# Altium integrated library TI Data Converters Digital to Analog Converter.IntLib: 1533 symbols (part 6 of 99)
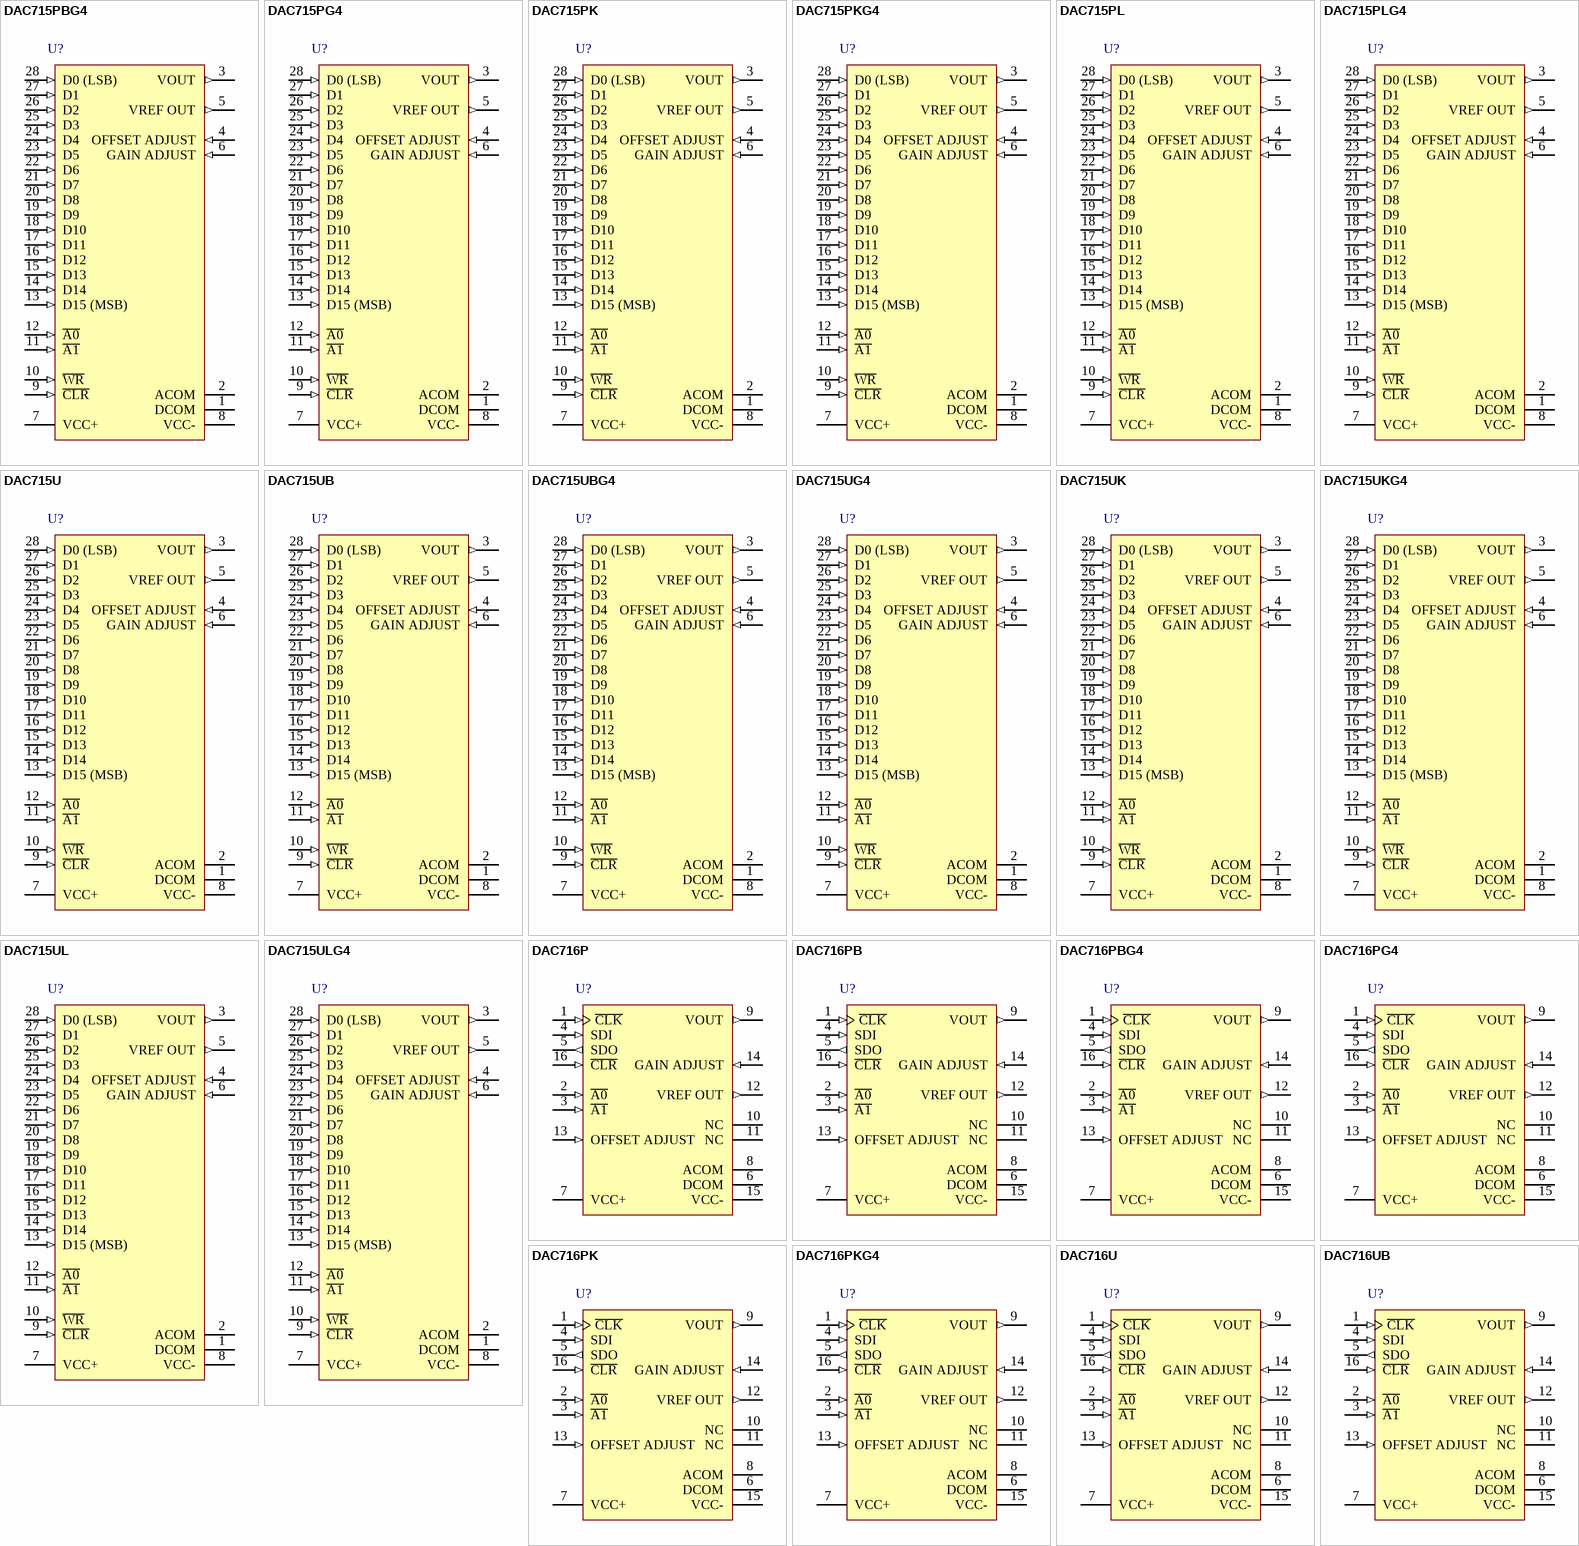
[diagram p78: symbols DAC715PBG4 to DAC716UB]

## DAC715PBG4
designator U?
DAC with 16-Bit Bus Interface, -40 to 85 degC, 28-pin DIP (NT28); Manufacturer: Texas Instruments; PartNumber: DAC715PBG4; DAC Channels: 1; DNL(Max)(+/-LSB): 2; Interface: Parallel; Power Consumption(Typ)(mW): 525; Resolution(Bits): 16; Settling Time(us): 10; SubFamily: Precision DAC (=<10MSPS); DatasheetVersion: SBAS046; PackageVersion: 4040050/C, 04/2009; PackageReference: NT28; PackageDescription: 28-Pin Plastic Dual-In-Line Package, Body 35.69 x 6.73 mm, Pitch 2.54 mm; Supplier 1: Digi-Key; Supplier Part Number 1: DAC715PBG4-ND; Supplier 2: Mouser; Supplier Part Number 2: 595-DAC715PBG4; INL(Max)(+/-LSB): 2; Mounting Technology: Through Hole; ComponentLink1Description: Manufacturer URL; ComponentLink1URL: http://www.ti.com/; ComponentLink2Description: Datasheet; ComponentLink2URL: http://www.ti.com/general/docs/lit/getliterature.tsp?genericPartNumber=DAC715&fileType=pdf; ComponentLink3Description: Package Specification; ComponentLink3URL: http://www.ti.com/lit/ml/mpdi004a/mpdi004a.pdf
footprint TI-NT28 (DIP, 28-Leads, Body 35.69x6.73mm, Pitch 2.54mm)
pins: 1 DCOM (power) "Power-Supply return for digital currents", 2 ACOM (power) "Analog Supply Return", 3 VOUT (out) "+/-10V D/A Output", 4 OFFSET ADJUST (in) "Offset Adjust (Bipolar)", 5 VREF OUT (out) "Voltage Reference Output", 6 GAIN ADJUST (in) "Gain Adjust", 7 VCC+ (power) "+12V to +15V Supply", 8 VCC- (power) "-12V to -15V Supply", 9 ~{CLR} (in) "CLEAR; Sets D/A output to Bipolar Zero (Active Low)", 10 ~{WR} (in) "Write (Active Low)", 11 ~{A1} (in) "Enable for D/A latch (Active Low)", 12 ~{A0} (in) "Enable for Input latch (Active Low)", 13 D15 (MSB) (in) "Data Bit 15 (Most Significant Bit)", 14 D14 (in) "Data Bit 14", 15 D13 (in) "Data Bit 13", 16 D12 (in) "Data Bit 12", 17 D11 (in) "Data Bit 11", 18 D10 (in) "Data Bit 10", 19 D9 (in) "Data Bit 9", 20 D8 (in) "Data Bit 8", 21 D7 (in) "Data Bit 7", 22 D6 (in) "Data Bit 6", 23 D5 (in) "Data Bit 5", 24 D4 (in) "Data Bit 4", 25 D3 (in) "Data Bit 3", 26 D2 (in) "Data Bit 2", 27 D1 (in) "Data Bit 1", 28 D0 (LSB) (in) "Data Bit 0 (Least Significant Bit)"

## DAC715PG4
designator U?
DAC with 16-Bit Bus Interface, -40 to 85 degC, 28-pin DIP (NT28); Manufacturer: Texas Instruments; PartNumber: DAC715PG4; DAC Channels: 1; DNL(Max)(+/-LSB): 4; Interface: Parallel; Power Consumption(Typ)(mW): 525; Resolution(Bits): 16; Settling Time(us): 10; SubFamily: Precision DAC (=<10MSPS); DatasheetVersion: SBAS046; PackageVersion: 4040050/C, 04/2009; PackageReference: NT28; PackageDescription: 28-Pin Plastic Dual-In-Line Package, Body 35.69 x 6.73 mm, Pitch 2.54 mm; Supplier 1: Digi-Key; Supplier Part Number 1: DAC715PG4-ND; Supplier 2: Mouser; Supplier Part Number 2: 595-DAC715PG4; INL(Max)(+/-LSB): 4; Mounting Technology: Through Hole; ComponentLink1Description: Manufacturer URL; ComponentLink1URL: http://www.ti.com/; ComponentLink2Description: Datasheet; ComponentLink2URL: http://www.ti.com/general/docs/lit/getliterature.tsp?genericPartNumber=DAC715&fileType=pdf; ComponentLink3Description: Package Specification; ComponentLink3URL: http://www.ti.com/lit/ml/mpdi004a/mpdi004a.pdf
footprint TI-NT28 (DIP, 28-Leads, Body 35.69x6.73mm, Pitch 2.54mm)
pins: 1 DCOM (power) "Power-Supply return for digital currents", 2 ACOM (power) "Analog Supply Return", 3 VOUT (out) "+/-10V D/A Output", 4 OFFSET ADJUST (in) "Offset Adjust (Bipolar)", 5 VREF OUT (out) "Voltage Reference Output", 6 GAIN ADJUST (in) "Gain Adjust", 7 VCC+ (power) "+12V to +15V Supply", 8 VCC- (power) "-12V to -15V Supply", 9 ~{CLR} (in) "CLEAR; Sets D/A output to Bipolar Zero (Active Low)", 10 ~{WR} (in) "Write (Active Low)", 11 ~{A1} (in) "Enable for D/A latch (Active Low)", 12 ~{A0} (in) "Enable for Input latch (Active Low)", 13 D15 (MSB) (in) "Data Bit 15 (Most Significant Bit)", 14 D14 (in) "Data Bit 14", 15 D13 (in) "Data Bit 13", 16 D12 (in) "Data Bit 12", 17 D11 (in) "Data Bit 11", 18 D10 (in) "Data Bit 10", 19 D9 (in) "Data Bit 9", 20 D8 (in) "Data Bit 8", 21 D7 (in) "Data Bit 7", 22 D6 (in) "Data Bit 6", 23 D5 (in) "Data Bit 5", 24 D4 (in) "Data Bit 4", 25 D3 (in) "Data Bit 3", 26 D2 (in) "Data Bit 2", 27 D1 (in) "Data Bit 1", 28 D0 (LSB) (in) "Data Bit 0 (Least Significant Bit)"

## DAC715PK
designator U?
DAC with 16-Bit Bus Interface, 0 to 70 degC, 28-pin DIP (NT28); Manufacturer: Texas Instruments; PartNumber: DAC715PK; DAC Channels: 1; DNL(Max)(+/-LSB): 2; Interface: Parallel; Power Consumption(Typ)(mW): 525; Resolution(Bits): 16; Settling Time(us): 10; SubFamily: Precision DAC (=<10MSPS); DatasheetVersion: SBAS046; PackageVersion: 4040050/C, 04/2009; PackageReference: NT28; PackageDescription: 28-Pin Plastic Dual-In-Line Package, Body 35.69 x 6.73 mm, Pitch 2.54 mm; Supplier 1: Digi-Key; Supplier Part Number 1: 296-33254-5-ND; Supplier 2: Newark; Supplier Part Number 2: 74C9139; Supplier 3: Mouser; Supplier Part Number 3: 595-DAC715PK; INL(Max)(+/-LSB): 2; Mounting Technology: Through Hole; ComponentLink1Description: Manufacturer URL; ComponentLink1URL: http://www.ti.com/; ComponentLink2Description: Datasheet; ComponentLink2URL: http://www.ti.com/general/docs/lit/getliterature.tsp?genericPartNumber=DAC715&fileType=pdf; ComponentLink3Description: Package Specification; ComponentLink3URL: http://www.ti.com/lit/ml/mpdi004a/mpdi004a.pdf
footprint TI-NT28 (DIP, 28-Leads, Body 35.69x6.73mm, Pitch 2.54mm)
pins: 1 DCOM (power) "Power-Supply return for digital currents", 2 ACOM (power) "Analog Supply Return", 3 VOUT (out) "+/-10V D/A Output", 4 OFFSET ADJUST (in) "Offset Adjust (Bipolar)", 5 VREF OUT (out) "Voltage Reference Output", 6 GAIN ADJUST (in) "Gain Adjust", 7 VCC+ (power) "+12V to +15V Supply", 8 VCC- (power) "-12V to -15V Supply", 9 ~{CLR} (in) "CLEAR; Sets D/A output to Bipolar Zero (Active Low)", 10 ~{WR} (in) "Write (Active Low)", 11 ~{A1} (in) "Enable for D/A latch (Active Low)", 12 ~{A0} (in) "Enable for Input latch (Active Low)", 13 D15 (MSB) (in) "Data Bit 15 (Most Significant Bit)", 14 D14 (in) "Data Bit 14", 15 D13 (in) "Data Bit 13", 16 D12 (in) "Data Bit 12", 17 D11 (in) "Data Bit 11", 18 D10 (in) "Data Bit 10", 19 D9 (in) "Data Bit 9", 20 D8 (in) "Data Bit 8", 21 D7 (in) "Data Bit 7", 22 D6 (in) "Data Bit 6", 23 D5 (in) "Data Bit 5", 24 D4 (in) "Data Bit 4", 25 D3 (in) "Data Bit 3", 26 D2 (in) "Data Bit 2", 27 D1 (in) "Data Bit 1", 28 D0 (LSB) (in) "Data Bit 0 (Least Significant Bit)"

## DAC715PKG4
designator U?
DAC with 16-Bit Bus Interface, 0 to 70 degC, 28-pin DIP (NT28); Manufacturer: Texas Instruments; PartNumber: DAC715PKG4; DAC Channels: 1; DNL(Max)(+/-LSB): 2; Interface: Parallel; Power Consumption(Typ)(mW): 525; Resolution(Bits): 16; Settling Time(us): 10; SubFamily: Precision DAC (=<10MSPS); DatasheetVersion: SBAS046; PackageVersion: 4040050/C, 04/2009; PackageReference: NT28; PackageDescription: 28-Pin Plastic Dual-In-Line Package, Body 35.69 x 6.73 mm, Pitch 2.54 mm; Supplier 1: Digi-Key; Supplier Part Number 1: DAC715PKG4-ND; Supplier 2: Mouser; Supplier Part Number 2: 595-DAC715PKG4; INL(Max)(+/-LSB): 2; Mounting Technology: Through Hole; ComponentLink1Description: Manufacturer URL; ComponentLink1URL: http://www.ti.com/; ComponentLink2Description: Datasheet; ComponentLink2URL: http://www.ti.com/general/docs/lit/getliterature.tsp?genericPartNumber=DAC715&fileType=pdf; ComponentLink3Description: Package Specification; ComponentLink3URL: http://www.ti.com/lit/ml/mpdi004a/mpdi004a.pdf
footprint TI-NT28 (DIP, 28-Leads, Body 35.69x6.73mm, Pitch 2.54mm)
pins: 1 DCOM (power) "Power-Supply return for digital currents", 2 ACOM (power) "Analog Supply Return", 3 VOUT (out) "+/-10V D/A Output", 4 OFFSET ADJUST (in) "Offset Adjust (Bipolar)", 5 VREF OUT (out) "Voltage Reference Output", 6 GAIN ADJUST (in) "Gain Adjust", 7 VCC+ (power) "+12V to +15V Supply", 8 VCC- (power) "-12V to -15V Supply", 9 ~{CLR} (in) "CLEAR; Sets D/A output to Bipolar Zero (Active Low)", 10 ~{WR} (in) "Write (Active Low)", 11 ~{A1} (in) "Enable for D/A latch (Active Low)", 12 ~{A0} (in) "Enable for Input latch (Active Low)", 13 D15 (MSB) (in) "Data Bit 15 (Most Significant Bit)", 14 D14 (in) "Data Bit 14", 15 D13 (in) "Data Bit 13", 16 D12 (in) "Data Bit 12", 17 D11 (in) "Data Bit 11", 18 D10 (in) "Data Bit 10", 19 D9 (in) "Data Bit 9", 20 D8 (in) "Data Bit 8", 21 D7 (in) "Data Bit 7", 22 D6 (in) "Data Bit 6", 23 D5 (in) "Data Bit 5", 24 D4 (in) "Data Bit 4", 25 D3 (in) "Data Bit 3", 26 D2 (in) "Data Bit 2", 27 D1 (in) "Data Bit 1", 28 D0 (LSB) (in) "Data Bit 0 (Least Significant Bit)"

## DAC715PL
designator U?
DAC with 16-Bit Bus Interface, 0 to 70 degC, 28-pin DIP (NT28), Green (RoHS & no Sb/Br); Manufacturer: Texas Instruments; PartNumber: DAC715PL; DAC Channels: 1; INL(Max)(+/-LSB): 2; Interface: Parallel; Power Consumption(Typ)(mW): 525; Resolution(Bits): 16; Settling Time(us): 10; SubFamily: Precision DAC (=<10MSPS); DatasheetVersion: SBAS046; PackageVersion: 4040050/C, 04/2009; PackageReference: NT28; PackageDescription: 28-Pin Plastic Dual-In-Line Package, Body 35.69 x 6.73 mm, Pitch 2.54 mm; Supplier 1: Digi-Key; Supplier Part Number 1: DAC715PL-ND; Supplier 2: Mouser; Supplier Part Number 2: 595-DAC715PL; DNL(Max)(+/-LSB): 1; Eco-Plan: Green (RoHS & no Sb/Br); Mounting Technology: Through Hole; ComponentLink1Description: Manufacturer URL; ComponentLink1URL: http://www.ti.com/; ComponentLink2Description: Datasheet; ComponentLink2URL: http://www.ti.com/general/docs/lit/getliterature.tsp?genericPartNumber=DAC715&fileType=pdf; ComponentLink3Description: Package Specification; ComponentLink3URL: http://www.ti.com/lit/ml/mpdi004a/mpdi004a.pdf
footprint TI-NT28 (DIP, 28-Leads, Body 35.69x6.73mm, Pitch 2.54mm)
pins: 1 DCOM (power) "Power-Supply return for digital currents", 2 ACOM (power) "Analog Supply Return", 3 VOUT (out) "+/-10V D/A Output", 4 OFFSET ADJUST (in) "Offset Adjust (Bipolar)", 5 VREF OUT (out) "Voltage Reference Output", 6 GAIN ADJUST (in) "Gain Adjust", 7 VCC+ (power) "+12V to +15V Supply", 8 VCC- (power) "-12V to -15V Supply", 9 ~{CLR} (in) "CLEAR; Sets D/A output to Bipolar Zero (Active Low)", 10 ~{WR} (in) "Write (Active Low)", 11 ~{A1} (in) "Enable for D/A latch (Active Low)", 12 ~{A0} (in) "Enable for Input latch (Active Low)", 13 D15 (MSB) (in) "Data Bit 15 (Most Significant Bit)", 14 D14 (in) "Data Bit 14", 15 D13 (in) "Data Bit 13", 16 D12 (in) "Data Bit 12", 17 D11 (in) "Data Bit 11", 18 D10 (in) "Data Bit 10", 19 D9 (in) "Data Bit 9", 20 D8 (in) "Data Bit 8", 21 D7 (in) "Data Bit 7", 22 D6 (in) "Data Bit 6", 23 D5 (in) "Data Bit 5", 24 D4 (in) "Data Bit 4", 25 D3 (in) "Data Bit 3", 26 D2 (in) "Data Bit 2", 27 D1 (in) "Data Bit 1", 28 D0 (LSB) (in) "Data Bit 0 (Least Significant Bit)"

## DAC715PLG4
designator U?
DAC with 16-Bit Bus Interface, 0 to 70 degC, 28-pin DIP (NT28), Green (RoHS & no Sb/Br); Manufacturer: Texas Instruments; PartNumber: DAC715PLG4; DAC Channels: 1; INL(Max)(+/-LSB): 2; Interface: Parallel; Power Consumption(Typ)(mW): 525; Resolution(Bits): 16; Settling Time(us): 10; SubFamily: Precision DAC (=<10MSPS); DatasheetVersion: SBAS046; PackageVersion: 4040050/C, 04/2009; PackageReference: NT28; PackageDescription: 28-Pin Plastic Dual-In-Line Package, Body 35.69 x 6.73 mm, Pitch 2.54 mm; Supplier 1: Digi-Key; Supplier Part Number 1: DAC715PLG4-ND; Supplier 2: Newark; Supplier Part Number 2: 02M2585; Supplier 3: Mouser; Supplier Part Number 3: 595-DAC715PLG4; DNL(Max)(+/-LSB): 1; Eco-Plan: Green (RoHS & no Sb/Br); Mounting Technology: Through Hole; ComponentLink1Description: Manufacturer URL; ComponentLink1URL: http://www.ti.com/; ComponentLink2Description: Datasheet; ComponentLink2URL: http://www.ti.com/general/docs/lit/getliterature.tsp?genericPartNumber=DAC715&fileType=pdf; ComponentLink3Description: Package Specification; ComponentLink3URL: http://www.ti.com/lit/ml/mpdi004a/mpdi004a.pdf
footprint TI-NT28 (DIP, 28-Leads, Body 35.69x6.73mm, Pitch 2.54mm)
pins: 1 DCOM (power) "Power-Supply return for digital currents", 2 ACOM (power) "Analog Supply Return", 3 VOUT (out) "+/-10V D/A Output", 4 OFFSET ADJUST (in) "Offset Adjust (Bipolar)", 5 VREF OUT (out) "Voltage Reference Output", 6 GAIN ADJUST (in) "Gain Adjust", 7 VCC+ (power) "+12V to +15V Supply", 8 VCC- (power) "-12V to -15V Supply", 9 ~{CLR} (in) "CLEAR; Sets D/A output to Bipolar Zero (Active Low)", 10 ~{WR} (in) "Write (Active Low)", 11 ~{A1} (in) "Enable for D/A latch (Active Low)", 12 ~{A0} (in) "Enable for Input latch (Active Low)", 13 D15 (MSB) (in) "Data Bit 15 (Most Significant Bit)", 14 D14 (in) "Data Bit 14", 15 D13 (in) "Data Bit 13", 16 D12 (in) "Data Bit 12", 17 D11 (in) "Data Bit 11", 18 D10 (in) "Data Bit 10", 19 D9 (in) "Data Bit 9", 20 D8 (in) "Data Bit 8", 21 D7 (in) "Data Bit 7", 22 D6 (in) "Data Bit 6", 23 D5 (in) "Data Bit 5", 24 D4 (in) "Data Bit 4", 25 D3 (in) "Data Bit 3", 26 D2 (in) "Data Bit 2", 27 D1 (in) "Data Bit 1", 28 D0 (LSB) (in) "Data Bit 0 (Least Significant Bit)"

## DAC715U
designator U?
DAC with 16-Bit Bus Interface, -40 to 85 degC, 28-pin SOIC (DW28), Green (RoHS & no Sb/Br); Manufacturer: Texas Instruments; PartNumber: DAC715U; DAC Channels: 1; DNL(Max)(+/-LSB): 4; Interface: Parallel; Power Consumption(Typ)(mW): 525; Resolution(Bits): 16; Settling Time(us): 10; SubFamily: Precision DAC (=<10MSPS); DatasheetVersion: SBAS046; PackageVersion: 4040000-6/G, 01/2011; PackageReference: DW28; PackageDescription: 28-Pin Plastic Small Outline, Body 17.90 x 7.50 mm, Pitch 1.27 mm; Supplier 1: Digi-Key; Supplier Part Number 1: DAC715U-ND; Supplier 2: Mouser; Supplier Part Number 2: 595-DAC715U; Eco-Plan: Green (RoHS & no Sb/Br); INL(Max)(+/-LSB): 4; Mounting Technology: Surface Mount; Code_JEDEC: MS-013; ComponentLink1Description: Manufacturer URL; ComponentLink1URL: http://www.ti.com/; ComponentLink2Description: Datasheet; ComponentLink2URL: http://www.ti.com/general/docs/lit/getliterature.tsp?genericPartNumber=DAC715&fileType=pdf; ComponentLink3Description: Package Specification; ComponentLink3URL: http://www.ti.com/lit/ml/mpds175a/mpds175a.pdf
footprint TI-DW28_N (SOIC, 28-Leads, Body 17.9x7.5mm, Pitch 1.27mm, IPC Medium Density)
footprint TI-DW28_L (SOIC, 28-Leads, Body 17.9x7.5mm, Pitch 1.27mm, IPC High Density)
footprint TI-DW28_M (SOIC, 28-Leads, Body 17.9x7.5mm, Pitch 1.27mm, IPC Low Density)
pins: 1 DCOM (power) "Power-Supply return for digital currents", 2 ACOM (power) "Analog Supply Return", 3 VOUT (out) "+/-10V D/A Output", 4 OFFSET ADJUST (in) "Offset Adjust (Bipolar)", 5 VREF OUT (out) "Voltage Reference Output", 6 GAIN ADJUST (in) "Gain Adjust", 7 VCC+ (power) "+12V to +15V Supply", 8 VCC- (power) "-12V to -15V Supply", 9 ~{CLR} (in) "CLEAR; Sets D/A output to Bipolar Zero (Active Low)", 10 ~{WR} (in) "Write (Active Low)", 11 ~{A1} (in) "Enable for D/A latch (Active Low)", 12 ~{A0} (in) "Enable for Input latch (Active Low)", 13 D15 (MSB) (in) "Data Bit 15 (Most Significant Bit)", 14 D14 (in) "Data Bit 14", 15 D13 (in) "Data Bit 13", 16 D12 (in) "Data Bit 12", 17 D11 (in) "Data Bit 11", 18 D10 (in) "Data Bit 10", 19 D9 (in) "Data Bit 9", 20 D8 (in) "Data Bit 8", 21 D7 (in) "Data Bit 7", 22 D6 (in) "Data Bit 6", 23 D5 (in) "Data Bit 5", 24 D4 (in) "Data Bit 4", 25 D3 (in) "Data Bit 3", 26 D2 (in) "Data Bit 2", 27 D1 (in) "Data Bit 1", 28 D0 (LSB) (in) "Data Bit 0 (Least Significant Bit)"

## DAC715UB
designator U?
DAC with 16-Bit Bus Interface, -40 to 85 degC, 28-pin SOIC (DW28), Green (RoHS & no Sb/Br); Manufacturer: Texas Instruments; PartNumber: DAC715UB; DAC Channels: 1; DNL(Max)(+/-LSB): 2; Interface: Parallel; Power Consumption(Typ)(mW): 525; Resolution(Bits): 16; Settling Time(us): 10; SubFamily: Precision DAC (=<10MSPS); DatasheetVersion: SBAS046; PackageVersion: 4040000-6/G, 01/2011; PackageReference: DW28; PackageDescription: 28-Pin Plastic Small Outline, Body 17.90 x 7.50 mm, Pitch 1.27 mm; Supplier 1: Digi-Key; Supplier Part Number 1: DAC715UB-ND; Supplier 2: Mouser; Supplier Part Number 2: 595-DAC715UB; Eco-Plan: Green (RoHS & no Sb/Br); INL(Max)(+/-LSB): 2; Mounting Technology: Surface Mount; Code_JEDEC: MS-013; ComponentLink1Description: Manufacturer URL; ComponentLink1URL: http://www.ti.com/; ComponentLink2Description: Datasheet; ComponentLink2URL: http://www.ti.com/general/docs/lit/getliterature.tsp?genericPartNumber=DAC715&fileType=pdf; ComponentLink3Description: Package Specification; ComponentLink3URL: http://www.ti.com/lit/ml/mpds175a/mpds175a.pdf
footprint TI-DW28_N (SOIC, 28-Leads, Body 17.9x7.5mm, Pitch 1.27mm, IPC Medium Density)
footprint TI-DW28_L (SOIC, 28-Leads, Body 17.9x7.5mm, Pitch 1.27mm, IPC High Density)
footprint TI-DW28_M (SOIC, 28-Leads, Body 17.9x7.5mm, Pitch 1.27mm, IPC Low Density)
pins: 1 DCOM (power) "Power-Supply return for digital currents", 2 ACOM (power) "Analog Supply Return", 3 VOUT (out) "+/-10V D/A Output", 4 OFFSET ADJUST (in) "Offset Adjust (Bipolar)", 5 VREF OUT (out) "Voltage Reference Output", 6 GAIN ADJUST (in) "Gain Adjust", 7 VCC+ (power) "+12V to +15V Supply", 8 VCC- (power) "-12V to -15V Supply", 9 ~{CLR} (in) "CLEAR; Sets D/A output to Bipolar Zero (Active Low)", 10 ~{WR} (in) "Write (Active Low)", 11 ~{A1} (in) "Enable for D/A latch (Active Low)", 12 ~{A0} (in) "Enable for Input latch (Active Low)", 13 D15 (MSB) (in) "Data Bit 15 (Most Significant Bit)", 14 D14 (in) "Data Bit 14", 15 D13 (in) "Data Bit 13", 16 D12 (in) "Data Bit 12", 17 D11 (in) "Data Bit 11", 18 D10 (in) "Data Bit 10", 19 D9 (in) "Data Bit 9", 20 D8 (in) "Data Bit 8", 21 D7 (in) "Data Bit 7", 22 D6 (in) "Data Bit 6", 23 D5 (in) "Data Bit 5", 24 D4 (in) "Data Bit 4", 25 D3 (in) "Data Bit 3", 26 D2 (in) "Data Bit 2", 27 D1 (in) "Data Bit 1", 28 D0 (LSB) (in) "Data Bit 0 (Least Significant Bit)"

## DAC715UBG4
designator U?
DAC with 16-Bit Bus Interface, -40 to 85 degC, 28-pin SOIC (DW28), Green (RoHS & no Sb/Br); Manufacturer: Texas Instruments; PartNumber: DAC715UBG4; DAC Channels: 1; DNL(Max)(+/-LSB): 2; Interface: Parallel; Power Consumption(Typ)(mW): 525; Resolution(Bits): 16; Settling Time(us): 10; SubFamily: Precision DAC (=<10MSPS); DatasheetVersion: SBAS046; PackageVersion: 4040000-6/G, 01/2011; PackageReference: DW28; PackageDescription: 28-Pin Plastic Small Outline, Body 17.90 x 7.50 mm, Pitch 1.27 mm; Supplier 1: Digi-Key; Supplier Part Number 1: DAC715UBG4-ND; Supplier 2: Mouser; Supplier Part Number 2: 595-DAC715UBG4; Eco-Plan: Green (RoHS & no Sb/Br); INL(Max)(+/-LSB): 2; Mounting Technology: Surface Mount; Code_JEDEC: MS-013; ComponentLink1Description: Manufacturer URL; ComponentLink1URL: http://www.ti.com/; ComponentLink2Description: Datasheet; ComponentLink2URL: http://www.ti.com/general/docs/lit/getliterature.tsp?genericPartNumber=DAC715&fileType=pdf; ComponentLink3Description: Package Specification; ComponentLink3URL: http://www.ti.com/lit/ml/mpds175a/mpds175a.pdf
footprint TI-DW28_N (SOIC, 28-Leads, Body 17.9x7.5mm, Pitch 1.27mm, IPC Medium Density)
footprint TI-DW28_L (SOIC, 28-Leads, Body 17.9x7.5mm, Pitch 1.27mm, IPC High Density)
footprint TI-DW28_M (SOIC, 28-Leads, Body 17.9x7.5mm, Pitch 1.27mm, IPC Low Density)
pins: 1 DCOM (power) "Power-Supply return for digital currents", 2 ACOM (power) "Analog Supply Return", 3 VOUT (out) "+/-10V D/A Output", 4 OFFSET ADJUST (in) "Offset Adjust (Bipolar)", 5 VREF OUT (out) "Voltage Reference Output", 6 GAIN ADJUST (in) "Gain Adjust", 7 VCC+ (power) "+12V to +15V Supply", 8 VCC- (power) "-12V to -15V Supply", 9 ~{CLR} (in) "CLEAR; Sets D/A output to Bipolar Zero (Active Low)", 10 ~{WR} (in) "Write (Active Low)", 11 ~{A1} (in) "Enable for D/A latch (Active Low)", 12 ~{A0} (in) "Enable for Input latch (Active Low)", 13 D15 (MSB) (in) "Data Bit 15 (Most Significant Bit)", 14 D14 (in) "Data Bit 14", 15 D13 (in) "Data Bit 13", 16 D12 (in) "Data Bit 12", 17 D11 (in) "Data Bit 11", 18 D10 (in) "Data Bit 10", 19 D9 (in) "Data Bit 9", 20 D8 (in) "Data Bit 8", 21 D7 (in) "Data Bit 7", 22 D6 (in) "Data Bit 6", 23 D5 (in) "Data Bit 5", 24 D4 (in) "Data Bit 4", 25 D3 (in) "Data Bit 3", 26 D2 (in) "Data Bit 2", 27 D1 (in) "Data Bit 1", 28 D0 (LSB) (in) "Data Bit 0 (Least Significant Bit)"

## DAC715UG4
designator U?
DAC with 16-Bit Bus Interface, -40 to 85 degC, 28-pin SOIC (DW28), Green (RoHS & no Sb/Br); Manufacturer: Texas Instruments; PartNumber: DAC715UG4; DAC Channels: 1; DNL(Max)(+/-LSB): 4; Interface: Parallel; Power Consumption(Typ)(mW): 525; Resolution(Bits): 16; Settling Time(us): 10; SubFamily: Precision DAC (=<10MSPS); DatasheetVersion: SBAS046; PackageVersion: 4040000-6/G, 01/2011; PackageReference: DW28; PackageDescription: 28-Pin Plastic Small Outline, Body 17.90 x 7.50 mm, Pitch 1.27 mm; Supplier 1: Digi-Key; Supplier Part Number 1: DAC715UG4-ND; Supplier 2: Mouser; Supplier Part Number 2: 595-DAC715UG4; Eco-Plan: Green (RoHS & no Sb/Br); INL(Max)(+/-LSB): 4; Mounting Technology: Surface Mount; Code_JEDEC: MS-013; ComponentLink1Description: Manufacturer URL; ComponentLink1URL: http://www.ti.com/; ComponentLink2Description: Datasheet; ComponentLink2URL: http://www.ti.com/general/docs/lit/getliterature.tsp?genericPartNumber=DAC715&fileType=pdf; ComponentLink3Description: Package Specification; ComponentLink3URL: http://www.ti.com/lit/ml/mpds175a/mpds175a.pdf
footprint TI-DW28_N (SOIC, 28-Leads, Body 17.9x7.5mm, Pitch 1.27mm, IPC Medium Density)
footprint TI-DW28_L (SOIC, 28-Leads, Body 17.9x7.5mm, Pitch 1.27mm, IPC High Density)
footprint TI-DW28_M (SOIC, 28-Leads, Body 17.9x7.5mm, Pitch 1.27mm, IPC Low Density)
pins: 1 DCOM (power) "Power-Supply return for digital currents", 2 ACOM (power) "Analog Supply Return", 3 VOUT (out) "+/-10V D/A Output", 4 OFFSET ADJUST (in) "Offset Adjust (Bipolar)", 5 VREF OUT (out) "Voltage Reference Output", 6 GAIN ADJUST (in) "Gain Adjust", 7 VCC+ (power) "+12V to +15V Supply", 8 VCC- (power) "-12V to -15V Supply", 9 ~{CLR} (in) "CLEAR; Sets D/A output to Bipolar Zero (Active Low)", 10 ~{WR} (in) "Write (Active Low)", 11 ~{A1} (in) "Enable for D/A latch (Active Low)", 12 ~{A0} (in) "Enable for Input latch (Active Low)", 13 D15 (MSB) (in) "Data Bit 15 (Most Significant Bit)", 14 D14 (in) "Data Bit 14", 15 D13 (in) "Data Bit 13", 16 D12 (in) "Data Bit 12", 17 D11 (in) "Data Bit 11", 18 D10 (in) "Data Bit 10", 19 D9 (in) "Data Bit 9", 20 D8 (in) "Data Bit 8", 21 D7 (in) "Data Bit 7", 22 D6 (in) "Data Bit 6", 23 D5 (in) "Data Bit 5", 24 D4 (in) "Data Bit 4", 25 D3 (in) "Data Bit 3", 26 D2 (in) "Data Bit 2", 27 D1 (in) "Data Bit 1", 28 D0 (LSB) (in) "Data Bit 0 (Least Significant Bit)"

## DAC715UK
designator U?
DAC with 16-Bit Bus Interface, 0 to 70 degC, 28-pin SOIC (DW28), Green (RoHS & no Sb/Br); Manufacturer: Texas Instruments; PartNumber: DAC715UK; DAC Channels: 1; DNL(Max)(+/-LSB): 2; Interface: Parallel; Power Consumption(Typ)(mW): 525; Resolution(Bits): 16; Settling Time(us): 10; SubFamily: Precision DAC (=<10MSPS); DatasheetVersion: SBAS046; PackageVersion: 4040000-6/G, 01/2011; PackageReference: DW28; PackageDescription: 28-Pin Plastic Small Outline, Body 17.90 x 7.50 mm, Pitch 1.27 mm; Supplier 1: Digi-Key; Supplier Part Number 1: 296-33255-5-ND; Supplier 2: Mouser; Supplier Part Number 2: 595-DAC715UK; Eco-Plan: Green (RoHS & no Sb/Br); INL(Max)(+/-LSB): 2; Mounting Technology: Surface Mount; Code_JEDEC: MS-013; ComponentLink1Description: Manufacturer URL; ComponentLink1URL: http://www.ti.com/; ComponentLink2Description: Datasheet; ComponentLink2URL: http://www.ti.com/general/docs/lit/getliterature.tsp?genericPartNumber=DAC715&fileType=pdf; ComponentLink3Description: Package Specification; ComponentLink3URL: http://www.ti.com/lit/ml/mpds175a/mpds175a.pdf
footprint TI-DW28_N (SOIC, 28-Leads, Body 17.9x7.5mm, Pitch 1.27mm, IPC Medium Density)
footprint TI-DW28_L (SOIC, 28-Leads, Body 17.9x7.5mm, Pitch 1.27mm, IPC High Density)
footprint TI-DW28_M (SOIC, 28-Leads, Body 17.9x7.5mm, Pitch 1.27mm, IPC Low Density)
pins: 1 DCOM (power) "Power-Supply return for digital currents", 2 ACOM (power) "Analog Supply Return", 3 VOUT (out) "+/-10V D/A Output", 4 OFFSET ADJUST (in) "Offset Adjust (Bipolar)", 5 VREF OUT (out) "Voltage Reference Output", 6 GAIN ADJUST (in) "Gain Adjust", 7 VCC+ (power) "+12V to +15V Supply", 8 VCC- (power) "-12V to -15V Supply", 9 ~{CLR} (in) "CLEAR; Sets D/A output to Bipolar Zero (Active Low)", 10 ~{WR} (in) "Write (Active Low)", 11 ~{A1} (in) "Enable for D/A latch (Active Low)", 12 ~{A0} (in) "Enable for Input latch (Active Low)", 13 D15 (MSB) (in) "Data Bit 15 (Most Significant Bit)", 14 D14 (in) "Data Bit 14", 15 D13 (in) "Data Bit 13", 16 D12 (in) "Data Bit 12", 17 D11 (in) "Data Bit 11", 18 D10 (in) "Data Bit 10", 19 D9 (in) "Data Bit 9", 20 D8 (in) "Data Bit 8", 21 D7 (in) "Data Bit 7", 22 D6 (in) "Data Bit 6", 23 D5 (in) "Data Bit 5", 24 D4 (in) "Data Bit 4", 25 D3 (in) "Data Bit 3", 26 D2 (in) "Data Bit 2", 27 D1 (in) "Data Bit 1", 28 D0 (LSB) (in) "Data Bit 0 (Least Significant Bit)"

## DAC715UKG4
designator U?
DAC with 16-Bit Bus Interface, 0 to 70 degC, 28-pin SOIC (DW28), Green (RoHS & no Sb/Br); Manufacturer: Texas Instruments; PartNumber: DAC715UKG4; DAC Channels: 1; DNL(Max)(+/-LSB): 2; Interface: Parallel; Power Consumption(Typ)(mW): 525; Resolution(Bits): 16; Settling Time(us): 10; SubFamily: Precision DAC (=<10MSPS); DatasheetVersion: SBAS046; PackageVersion: 4040000-6/G, 01/2011; PackageReference: DW28; PackageDescription: 28-Pin Plastic Small Outline, Body 17.90 x 7.50 mm, Pitch 1.27 mm; Supplier 1: Digi-Key; Supplier Part Number 1: DAC715UKG4-ND; Supplier 2: Mouser; Supplier Part Number 2: 595-DAC715UKG4; Eco-Plan: Green (RoHS & no Sb/Br); INL(Max)(+/-LSB): 2; Mounting Technology: Surface Mount; Code_JEDEC: MS-013; ComponentLink1Description: Manufacturer URL; ComponentLink1URL: http://www.ti.com/; ComponentLink2Description: Datasheet; ComponentLink2URL: http://www.ti.com/general/docs/lit/getliterature.tsp?genericPartNumber=DAC715&fileType=pdf; ComponentLink3Description: Package Specification; ComponentLink3URL: http://www.ti.com/lit/ml/mpds175a/mpds175a.pdf
footprint TI-DW28_N (SOIC, 28-Leads, Body 17.9x7.5mm, Pitch 1.27mm, IPC Medium Density)
footprint TI-DW28_L (SOIC, 28-Leads, Body 17.9x7.5mm, Pitch 1.27mm, IPC High Density)
footprint TI-DW28_M (SOIC, 28-Leads, Body 17.9x7.5mm, Pitch 1.27mm, IPC Low Density)
pins: 1 DCOM (power) "Power-Supply return for digital currents", 2 ACOM (power) "Analog Supply Return", 3 VOUT (out) "+/-10V D/A Output", 4 OFFSET ADJUST (in) "Offset Adjust (Bipolar)", 5 VREF OUT (out) "Voltage Reference Output", 6 GAIN ADJUST (in) "Gain Adjust", 7 VCC+ (power) "+12V to +15V Supply", 8 VCC- (power) "-12V to -15V Supply", 9 ~{CLR} (in) "CLEAR; Sets D/A output to Bipolar Zero (Active Low)", 10 ~{WR} (in) "Write (Active Low)", 11 ~{A1} (in) "Enable for D/A latch (Active Low)", 12 ~{A0} (in) "Enable for Input latch (Active Low)", 13 D15 (MSB) (in) "Data Bit 15 (Most Significant Bit)", 14 D14 (in) "Data Bit 14", 15 D13 (in) "Data Bit 13", 16 D12 (in) "Data Bit 12", 17 D11 (in) "Data Bit 11", 18 D10 (in) "Data Bit 10", 19 D9 (in) "Data Bit 9", 20 D8 (in) "Data Bit 8", 21 D7 (in) "Data Bit 7", 22 D6 (in) "Data Bit 6", 23 D5 (in) "Data Bit 5", 24 D4 (in) "Data Bit 4", 25 D3 (in) "Data Bit 3", 26 D2 (in) "Data Bit 2", 27 D1 (in) "Data Bit 1", 28 D0 (LSB) (in) "Data Bit 0 (Least Significant Bit)"

## DAC715UL
designator U?
DAC with 16-Bit Bus Interface, 0 to 70 degC, 28-pin SOIC (DW28), Green (RoHS & no Sb/Br); Manufacturer: Texas Instruments; PartNumber: DAC715UL; DAC Channels: 1; INL(Max)(+/-LSB): 2; Interface: Parallel; Power Consumption(Typ)(mW): 525; Resolution(Bits): 16; Settling Time(us): 10; SubFamily: Precision DAC (=<10MSPS); DatasheetVersion: SBAS046; PackageVersion: 4040000-6/G, 01/2011; PackageReference: DW28; PackageDescription: 28-Pin Plastic Small Outline, Body 17.90 x 7.50 mm, Pitch 1.27 mm; Supplier 1: Digi-Key; Supplier Part Number 1: 296-24945-5-ND; Supplier 2: Mouser; Supplier Part Number 2: 595-DAC715UL; DNL(Max)(+/-LSB): 1; Eco-Plan: Green (RoHS & no Sb/Br); Mounting Technology: Surface Mount; Code_JEDEC: MS-013; ComponentLink1Description: Manufacturer URL; ComponentLink1URL: http://www.ti.com/; ComponentLink2Description: Datasheet; ComponentLink2URL: http://www.ti.com/general/docs/lit/getliterature.tsp?genericPartNumber=DAC715&fileType=pdf; ComponentLink3Description: Package Specification; ComponentLink3URL: http://www.ti.com/lit/ml/mpds175a/mpds175a.pdf
footprint TI-DW28_N (SOIC, 28-Leads, Body 17.9x7.5mm, Pitch 1.27mm, IPC Medium Density)
footprint TI-DW28_L (SOIC, 28-Leads, Body 17.9x7.5mm, Pitch 1.27mm, IPC High Density)
footprint TI-DW28_M (SOIC, 28-Leads, Body 17.9x7.5mm, Pitch 1.27mm, IPC Low Density)
pins: 1 DCOM (power) "Power-Supply return for digital currents", 2 ACOM (power) "Analog Supply Return", 3 VOUT (out) "+/-10V D/A Output", 4 OFFSET ADJUST (in) "Offset Adjust (Bipolar)", 5 VREF OUT (out) "Voltage Reference Output", 6 GAIN ADJUST (in) "Gain Adjust", 7 VCC+ (power) "+12V to +15V Supply", 8 VCC- (power) "-12V to -15V Supply", 9 ~{CLR} (in) "CLEAR; Sets D/A output to Bipolar Zero (Active Low)", 10 ~{WR} (in) "Write (Active Low)", 11 ~{A1} (in) "Enable for D/A latch (Active Low)", 12 ~{A0} (in) "Enable for Input latch (Active Low)", 13 D15 (MSB) (in) "Data Bit 15 (Most Significant Bit)", 14 D14 (in) "Data Bit 14", 15 D13 (in) "Data Bit 13", 16 D12 (in) "Data Bit 12", 17 D11 (in) "Data Bit 11", 18 D10 (in) "Data Bit 10", 19 D9 (in) "Data Bit 9", 20 D8 (in) "Data Bit 8", 21 D7 (in) "Data Bit 7", 22 D6 (in) "Data Bit 6", 23 D5 (in) "Data Bit 5", 24 D4 (in) "Data Bit 4", 25 D3 (in) "Data Bit 3", 26 D2 (in) "Data Bit 2", 27 D1 (in) "Data Bit 1", 28 D0 (LSB) (in) "Data Bit 0 (Least Significant Bit)"

## DAC715ULG4
designator U?
DAC with 16-Bit Bus Interface, 0 to 70 degC, 28-pin SOIC (DW28), Green (RoHS & no Sb/Br); Manufacturer: Texas Instruments; PartNumber: DAC715ULG4; DAC Channels: 1; INL(Max)(+/-LSB): 2; Interface: Parallel; Power Consumption(Typ)(mW): 525; Resolution(Bits): 16; Settling Time(us): 10; SubFamily: Precision DAC (=<10MSPS); DatasheetVersion: SBAS046; PackageVersion: 4040000-6/G, 01/2011; PackageReference: DW28; PackageDescription: 28-Pin Plastic Small Outline, Body 17.90 x 7.50 mm, Pitch 1.27 mm; Supplier 1: Digi-Key; Supplier Part Number 1: DAC715ULG4-ND; Supplier 2: Mouser; Supplier Part Number 2: 595-DAC715ULG4; DNL(Max)(+/-LSB): 1; Eco-Plan: Green (RoHS & no Sb/Br); Mounting Technology: Surface Mount; Code_JEDEC: MS-013; ComponentLink1Description: Manufacturer URL; ComponentLink1URL: http://www.ti.com/; ComponentLink2Description: Datasheet; ComponentLink2URL: http://www.ti.com/general/docs/lit/getliterature.tsp?genericPartNumber=DAC715&fileType=pdf; ComponentLink3Description: Package Specification; ComponentLink3URL: http://www.ti.com/lit/ml/mpds175a/mpds175a.pdf
footprint TI-DW28_N (SOIC, 28-Leads, Body 17.9x7.5mm, Pitch 1.27mm, IPC Medium Density)
footprint TI-DW28_L (SOIC, 28-Leads, Body 17.9x7.5mm, Pitch 1.27mm, IPC High Density)
footprint TI-DW28_M (SOIC, 28-Leads, Body 17.9x7.5mm, Pitch 1.27mm, IPC Low Density)
pins: 1 DCOM (power) "Power-Supply return for digital currents", 2 ACOM (power) "Analog Supply Return", 3 VOUT (out) "+/-10V D/A Output", 4 OFFSET ADJUST (in) "Offset Adjust (Bipolar)", 5 VREF OUT (out) "Voltage Reference Output", 6 GAIN ADJUST (in) "Gain Adjust", 7 VCC+ (power) "+12V to +15V Supply", 8 VCC- (power) "-12V to -15V Supply", 9 ~{CLR} (in) "CLEAR; Sets D/A output to Bipolar Zero (Active Low)", 10 ~{WR} (in) "Write (Active Low)", 11 ~{A1} (in) "Enable for D/A latch (Active Low)", 12 ~{A0} (in) "Enable for Input latch (Active Low)", 13 D15 (MSB) (in) "Data Bit 15 (Most Significant Bit)", 14 D14 (in) "Data Bit 14", 15 D13 (in) "Data Bit 13", 16 D12 (in) "Data Bit 12", 17 D11 (in) "Data Bit 11", 18 D10 (in) "Data Bit 10", 19 D9 (in) "Data Bit 9", 20 D8 (in) "Data Bit 8", 21 D7 (in) "Data Bit 7", 22 D6 (in) "Data Bit 6", 23 D5 (in) "Data Bit 5", 24 D4 (in) "Data Bit 4", 25 D3 (in) "Data Bit 3", 26 D2 (in) "Data Bit 2", 27 D1 (in) "Data Bit 1", 28 D0 (LSB) (in) "Data Bit 0 (Least Significant Bit)"

## DAC716P
designator U?
16-Bit DAC with Serial Data Interface, -40 to 85 degC, 16-pin DIP (N16), Green (RoHS & no Sb/Br-pin); Manufacturer: Texas Instruments; PartNumber: DAC716P; DAC Channels: 1; DNL(Max)(+/-LSB): 4; Eco-Plan: Green (RoHS & no Sb/Br); Interface: Serial SPI; Resolution(Bits): 16; Settling Time(us): 10; SubFamily: Precision DAC (=<10MSPS); DatasheetVersion: SBAS049; PackageVersion: 4040049/E, 12/2002; PackageReference: N16; PackageDescription: 16-Pin Plastic In-Line, Body 19.305 x 6.35 mm, Pitch 2.54 mm; Supplier 1: Digi-Key; Supplier Part Number 1: DAC716P-ND; Supplier 2: Farnell; Supplier Part Number 2: 1097417; Supplier 3: Mouser; Supplier Part Number 3: 595-DAC716P; INL(Max)(+/-LSB): 4; Mounting Technology: Through Hole; Code_JEDEC: MS-001; ComponentLink1Description: Manufacturer URL; ComponentLink1URL: http://www.ti.com/; ComponentLink2Description: Datasheet; ComponentLink2URL: http://www.ti.com/general/docs/lit/getliterature.tsp?genericPartNumber=DAC716&fileType=pdf; ComponentLink3Description: Package Specification; ComponentLink3URL: http://www.ti.com/litv/pdf/mpdi002c
footprint TI-N16 (DIP, 16-Leads, Body 19.305x6.35mm, Pitch 2.54mm)
pins: 1 ~{CLK} (in) "Serial Data Clock", 2 ~{A0} (in) "Enable for Input Register (Active Low)", 3 ~{A1} (in) "Enable for D/A Latch (Active Low)", 4 SDI (in) "Serial Data Input", 5 SDO (out) "Serial Data Output", 6 DCOM (power) "Digital Supply Ground", 7 VCC+ (power) "Positive Power Supply", 8 ACOM (power) "Analog Supply Ground", 9 VOUT (out) "D/A Output", 10 NC "No Connection", 11 NC "No Connection", 12 VREF OUT (out) "Voltage Reference Output", 13 OFFSET ADJUST (in) "Offset Adjust", 14 GAIN ADJUST (in) "Gain Adjust", 15 VCC- (power) "Negative Power Supply", 16 ~{CLR} (in) "Clear"

## DAC716PB
designator U?
16-Bit DAC with Serial Data Interface, -40 to 85 degC, 16-pin DIP (N16), Green (RoHS & no Sb/Br-pin); Manufacturer: Texas Instruments; PartNumber: DAC716PB; DAC Channels: 1; DNL(Max)(+/-LSB): 2; Eco-Plan: Green (RoHS & no Sb/Br); Interface: Serial SPI; Resolution(Bits): 16; Settling Time(us): 10; SubFamily: Precision DAC (=<10MSPS); DatasheetVersion: SBAS049; PackageVersion: 4040049/E, 12/2002; PackageReference: N16; PackageDescription: 16-Pin Plastic In-Line, Body 19.305 x 6.35 mm, Pitch 2.54 mm; Supplier 1: Digi-Key; Supplier Part Number 1: DAC716PB-ND; Supplier 2: Farnell; Supplier Part Number 2: 1754799; Supplier 3: Mouser; Supplier Part Number 3: 595-DAC716PB; INL(Max)(+/-LSB): 2; Mounting Technology: Through Hole; Code_JEDEC: MS-001; ComponentLink1Description: Manufacturer URL; ComponentLink1URL: http://www.ti.com/; ComponentLink2Description: Datasheet; ComponentLink2URL: http://www.ti.com/general/docs/lit/getliterature.tsp?genericPartNumber=DAC716&fileType=pdf; ComponentLink3Description: Package Specification; ComponentLink3URL: http://www.ti.com/litv/pdf/mpdi002c
footprint TI-N16 (DIP, 16-Leads, Body 19.305x6.35mm, Pitch 2.54mm)
pins: 1 ~{CLK} (in) "Serial Data Clock", 2 ~{A0} (in) "Enable for Input Register (Active Low)", 3 ~{A1} (in) "Enable for D/A Latch (Active Low)", 4 SDI (in) "Serial Data Input", 5 SDO (out) "Serial Data Output", 6 DCOM (power) "Digital Supply Ground", 7 VCC+ (power) "Positive Power Supply", 8 ACOM (power) "Analog Supply Ground", 9 VOUT (out) "D/A Output", 10 NC "No Connection", 11 NC "No Connection", 12 VREF OUT (out) "Voltage Reference Output", 13 OFFSET ADJUST (in) "Offset Adjust", 14 GAIN ADJUST (in) "Gain Adjust", 15 VCC- (power) "Negative Power Supply", 16 ~{CLR} (in) "Clear"

## DAC716PBG4
designator U?
16-Bit DAC with Serial Data Interface, -40 to 85 degC, 16-pin DIP (N16), Green (RoHS & no Sb/Br-pin); Manufacturer: Texas Instruments; PartNumber: DAC716PBG4; DAC Channels: 1; DNL(Max)(+/-LSB): 2; Eco-Plan: Green (RoHS & no Sb/Br); Interface: Serial SPI; Resolution(Bits): 16; Settling Time(us): 10; SubFamily: Precision DAC (=<10MSPS); DatasheetVersion: SBAS049; PackageVersion: 4040049/E, 12/2002; PackageReference: N16; PackageDescription: 16-Pin Plastic In-Line, Body 19.305 x 6.35 mm, Pitch 2.54 mm; Supplier 1: Digi-Key; Supplier Part Number 1: DAC716PBG4-ND; Supplier 2: Mouser; Supplier Part Number 2: 595-DAC716PBG4; INL(Max)(+/-LSB): 2; Mounting Technology: Through Hole; Code_JEDEC: MS-001; ComponentLink1Description: Manufacturer URL; ComponentLink1URL: http://www.ti.com/; ComponentLink2Description: Datasheet; ComponentLink2URL: http://www.ti.com/general/docs/lit/getliterature.tsp?genericPartNumber=DAC716&fileType=pdf; ComponentLink3Description: Package Specification; ComponentLink3URL: http://www.ti.com/litv/pdf/mpdi002c
footprint TI-N16 (DIP, 16-Leads, Body 19.305x6.35mm, Pitch 2.54mm)
pins: 1 ~{CLK} (in) "Serial Data Clock", 2 ~{A0} (in) "Enable for Input Register (Active Low)", 3 ~{A1} (in) "Enable for D/A Latch (Active Low)", 4 SDI (in) "Serial Data Input", 5 SDO (out) "Serial Data Output", 6 DCOM (power) "Digital Supply Ground", 7 VCC+ (power) "Positive Power Supply", 8 ACOM (power) "Analog Supply Ground", 9 VOUT (out) "D/A Output", 10 NC "No Connection", 11 NC "No Connection", 12 VREF OUT (out) "Voltage Reference Output", 13 OFFSET ADJUST (in) "Offset Adjust", 14 GAIN ADJUST (in) "Gain Adjust", 15 VCC- (power) "Negative Power Supply", 16 ~{CLR} (in) "Clear"

## DAC716PG4
designator U?
16-Bit DAC with Serial Data Interface, -40 to 85 degC, 16-pin DIP (N16), Green (RoHS & no Sb/Br-pin); Manufacturer: Texas Instruments; PartNumber: DAC716PG4; DAC Channels: 1; DNL(Max)(+/-LSB): 4; Eco-Plan: Green (RoHS & no Sb/Br); Interface: Serial SPI; Resolution(Bits): 16; Settling Time(us): 10; SubFamily: Precision DAC (=<10MSPS); DatasheetVersion: SBAS049; PackageVersion: 4040049/E, 12/2002; PackageReference: N16; PackageDescription: 16-Pin Plastic In-Line, Body 19.305 x 6.35 mm, Pitch 2.54 mm; Supplier 1: Digi-Key; Supplier Part Number 1: DAC716PG4-ND; Supplier 2: Mouser; Supplier Part Number 2: 595-DAC716PG4; INL(Max)(+/-LSB): 4; Mounting Technology: Through Hole; Code_JEDEC: MS-001; ComponentLink1Description: Manufacturer URL; ComponentLink1URL: http://www.ti.com/; ComponentLink2Description: Datasheet; ComponentLink2URL: http://www.ti.com/general/docs/lit/getliterature.tsp?genericPartNumber=DAC716&fileType=pdf; ComponentLink3Description: Package Specification; ComponentLink3URL: http://www.ti.com/litv/pdf/mpdi002c
footprint TI-N16 (DIP, 16-Leads, Body 19.305x6.35mm, Pitch 2.54mm)
pins: 1 ~{CLK} (in) "Serial Data Clock", 2 ~{A0} (in) "Enable for Input Register (Active Low)", 3 ~{A1} (in) "Enable for D/A Latch (Active Low)", 4 SDI (in) "Serial Data Input", 5 SDO (out) "Serial Data Output", 6 DCOM (power) "Digital Supply Ground", 7 VCC+ (power) "Positive Power Supply", 8 ACOM (power) "Analog Supply Ground", 9 VOUT (out) "D/A Output", 10 NC "No Connection", 11 NC "No Connection", 12 VREF OUT (out) "Voltage Reference Output", 13 OFFSET ADJUST (in) "Offset Adjust", 14 GAIN ADJUST (in) "Gain Adjust", 15 VCC- (power) "Negative Power Supply", 16 ~{CLR} (in) "Clear"

## DAC716PK
designator U?
16-Bit DAC with Serial Data Interface, 0 to 70 degC, 16-pin DIP (N16), Green (RoHS & no Sb/Br-pin); Manufacturer: Texas Instruments; PartNumber: DAC716PK; DAC Channels: 1; DNL(Max)(+/-LSB): 2; Eco-Plan: Green (RoHS & no Sb/Br); Interface: Serial SPI; Resolution(Bits): 16; Settling Time(us): 10; SubFamily: Precision DAC (=<10MSPS); DatasheetVersion: SBAS049; PackageVersion: 4040049/E, 12/2002; PackageReference: N16; PackageDescription: 16-Pin Plastic In-Line, Body 19.305 x 6.35 mm, Pitch 2.54 mm; Supplier 1: Digi-Key; Supplier Part Number 1: DAC716PK-ND; Supplier 2: Mouser; Supplier Part Number 2: 595-DAC716PK; INL(Max)(+/-LSB): 2; Mounting Technology: Through Hole; Code_JEDEC: MS-001; ComponentLink1Description: Manufacturer URL; ComponentLink1URL: http://www.ti.com/; ComponentLink2Description: Datasheet; ComponentLink2URL: http://www.ti.com/general/docs/lit/getliterature.tsp?genericPartNumber=DAC716&fileType=pdf; ComponentLink3Description: Package Specification; ComponentLink3URL: http://www.ti.com/litv/pdf/mpdi002c
footprint TI-N16 (DIP, 16-Leads, Body 19.305x6.35mm, Pitch 2.54mm)
pins: 1 ~{CLK} (in) "Serial Data Clock", 2 ~{A0} (in) "Enable for Input Register (Active Low)", 3 ~{A1} (in) "Enable for D/A Latch (Active Low)", 4 SDI (in) "Serial Data Input", 5 SDO (out) "Serial Data Output", 6 DCOM (power) "Digital Supply Ground", 7 VCC+ (power) "Positive Power Supply", 8 ACOM (power) "Analog Supply Ground", 9 VOUT (out) "D/A Output", 10 NC "No Connection", 11 NC "No Connection", 12 VREF OUT (out) "Voltage Reference Output", 13 OFFSET ADJUST (in) "Offset Adjust", 14 GAIN ADJUST (in) "Gain Adjust", 15 VCC- (power) "Negative Power Supply", 16 ~{CLR} (in) "Clear"

## DAC716PKG4
designator U?
16-Bit DAC with Serial Data Interface, 0 to 70 degC, 16-pin DIP (N16), Green (RoHS & no Sb/Br-pin); Manufacturer: Texas Instruments; PartNumber: DAC716PKG4; DAC Channels: 1; DNL(Max)(+/-LSB): 2; Eco-Plan: Green (RoHS & no Sb/Br); Interface: Serial SPI; Resolution(Bits): 16; Settling Time(us): 10; SubFamily: Precision DAC (=<10MSPS); DatasheetVersion: SBAS049; PackageVersion: 4040049/E, 12/2002; PackageReference: N16; PackageDescription: 16-Pin Plastic In-Line, Body 19.305 x 6.35 mm, Pitch 2.54 mm; Supplier 1: Digi-Key; Supplier Part Number 1: DAC716PKG4-ND; Supplier 2: Mouser; Supplier Part Number 2: 595-DAC716PKG4; INL(Max)(+/-LSB): 2; Mounting Technology: Through Hole; Code_JEDEC: MS-001; ComponentLink1Description: Manufacturer URL; ComponentLink1URL: http://www.ti.com/; ComponentLink2Description: Datasheet; ComponentLink2URL: http://www.ti.com/general/docs/lit/getliterature.tsp?genericPartNumber=DAC716&fileType=pdf; ComponentLink3Description: Package Specification; ComponentLink3URL: http://www.ti.com/litv/pdf/mpdi002c
footprint TI-N16 (DIP, 16-Leads, Body 19.305x6.35mm, Pitch 2.54mm)
pins: 1 ~{CLK} (in) "Serial Data Clock", 2 ~{A0} (in) "Enable for Input Register (Active Low)", 3 ~{A1} (in) "Enable for D/A Latch (Active Low)", 4 SDI (in) "Serial Data Input", 5 SDO (out) "Serial Data Output", 6 DCOM (power) "Digital Supply Ground", 7 VCC+ (power) "Positive Power Supply", 8 ACOM (power) "Analog Supply Ground", 9 VOUT (out) "D/A Output", 10 NC "No Connection", 11 NC "No Connection", 12 VREF OUT (out) "Voltage Reference Output", 13 OFFSET ADJUST (in) "Offset Adjust", 14 GAIN ADJUST (in) "Gain Adjust", 15 VCC- (power) "Negative Power Supply", 16 ~{CLR} (in) "Clear"

## DAC716U
designator U?
16-Bit DAC with Serial Data Interface, -40 to 85 degC, 16-pin SOIC (DW16), Green (RoHS & no Sb/Br); Manufacturer: Texas Instruments; PartNumber: DAC716U; DAC Channels: 1; DNL(Max)(+/-LSB): 4; Interface: Serial SPI; Resolution(Bits): 16; Settling Time(us): 10; SubFamily: Precision DAC (=<10MSPS); DatasheetVersion: SBAS049; PackageVersion: 4040000-2/G, 01/2011; PackageReference: DW16; PackageDescription: 16-Pin Plastic Small Outline, Body 10.30 x 7.50 mm, Pitch 1.27 mm; Supplier 1: Digi-Key; Supplier Part Number 1: DAC716U-ND; Supplier 2: Newark; Supplier Part Number 2: 35C0447; Supplier 3: Mouser; Supplier Part Number 3: 595-DAC716U; Eco-Plan: Green (RoHS & no Sb/Br); INL(Max)(+/-LSB): 4; Mounting Technology: Surface Mount; Code_JEDEC: MS-013; ComponentLink1Description: Manufacturer URL; ComponentLink1URL: http://www.ti.com/; ComponentLink2Description: Datasheet; ComponentLink2URL: http://www.ti.com/general/docs/lit/getliterature.tsp?genericPartNumber=DAC716&fileType=pdf; ComponentLink3Description: Package Specification; ComponentLink3URL: http://www.ti.com/litv/pdf/msoi003g
footprint TI-DW16_N (SOIC, 16-Leads, Body 10.3x7.5mm, Pitch 1.27mm, IPC Medium Density)
footprint TI-DW16_L (SOIC, 16-Leads, Body 10.3x7.5mm, Pitch 1.27mm, IPC High Density)
footprint TI-DW16_M (SOIC, 16-Leads, Body 10.3x7.5mm, Pitch 1.27mm, IPC Low Density)
pins: 1 ~{CLK} (in) "Serial Data Clock", 2 ~{A0} (in) "Enable for Input Register (Active Low)", 3 ~{A1} (in) "Enable for D/A Latch (Active Low)", 4 SDI (in) "Serial Data Input", 5 SDO (out) "Serial Data Output", 6 DCOM (power) "Digital Supply Ground", 7 VCC+ (power) "Positive Power Supply", 8 ACOM (power) "Analog Supply Ground", 9 VOUT (out) "D/A Output", 10 NC "No Connection", 11 NC "No Connection", 12 VREF OUT (out) "Voltage Reference Output", 13 OFFSET ADJUST (in) "Offset Adjust", 14 GAIN ADJUST (in) "Gain Adjust", 15 VCC- (power) "Negative Power Supply", 16 ~{CLR} (in) "Clear"

## DAC716UB
designator U?
16-Bit DAC with Serial Data Interface, -40 to 85 degC, 16-pin SOIC (DW16), Green (RoHS & no Sb/Br); Manufacturer: Texas Instruments; PartNumber: DAC716UB; DAC Channels: 1; DNL(Max)(+/-LSB): 2; Interface: Serial SPI; Resolution(Bits): 16; Settling Time(us): 10; SubFamily: Precision DAC (=<10MSPS); DatasheetVersion: SBAS049; PackageVersion: 4040000-2/G, 01/2011; PackageReference: DW16; PackageDescription: 16-Pin Plastic Small Outline, Body 10.30 x 7.50 mm, Pitch 1.27 mm; Supplier 1: Digi-Key; Supplier Part Number 1: DAC716UB-ND; Supplier 2: Newark; Supplier Part Number 2: 74C9146; Supplier 3: Mouser; Supplier Part Number 3: 595-DAC716UB; Eco-Plan: Green (RoHS & no Sb/Br); INL(Max)(+/-LSB): 2; Mounting Technology: Surface Mount; Code_JEDEC: MS-013; ComponentLink1Description: Manufacturer URL; ComponentLink1URL: http://www.ti.com/; ComponentLink2Description: Datasheet; ComponentLink2URL: http://www.ti.com/general/docs/lit/getliterature.tsp?genericPartNumber=DAC716&fileType=pdf; ComponentLink3Description: Package Specification; ComponentLink3URL: http://www.ti.com/litv/pdf/msoi003g
footprint TI-DW16_N (SOIC, 16-Leads, Body 10.3x7.5mm, Pitch 1.27mm, IPC Medium Density)
footprint TI-DW16_L (SOIC, 16-Leads, Body 10.3x7.5mm, Pitch 1.27mm, IPC High Density)
footprint TI-DW16_M (SOIC, 16-Leads, Body 10.3x7.5mm, Pitch 1.27mm, IPC Low Density)
pins: 1 ~{CLK} (in) "Serial Data Clock", 2 ~{A0} (in) "Enable for Input Register (Active Low)", 3 ~{A1} (in) "Enable for D/A Latch (Active Low)", 4 SDI (in) "Serial Data Input", 5 SDO (out) "Serial Data Output", 6 DCOM (power) "Digital Supply Ground", 7 VCC+ (power) "Positive Power Supply", 8 ACOM (power) "Analog Supply Ground", 9 VOUT (out) "D/A Output", 10 NC "No Connection", 11 NC "No Connection", 12 VREF OUT (out) "Voltage Reference Output", 13 OFFSET ADJUST (in) "Offset Adjust", 14 GAIN ADJUST (in) "Gain Adjust", 15 VCC- (power) "Negative Power Supply", 16 ~{CLR} (in) "Clear"

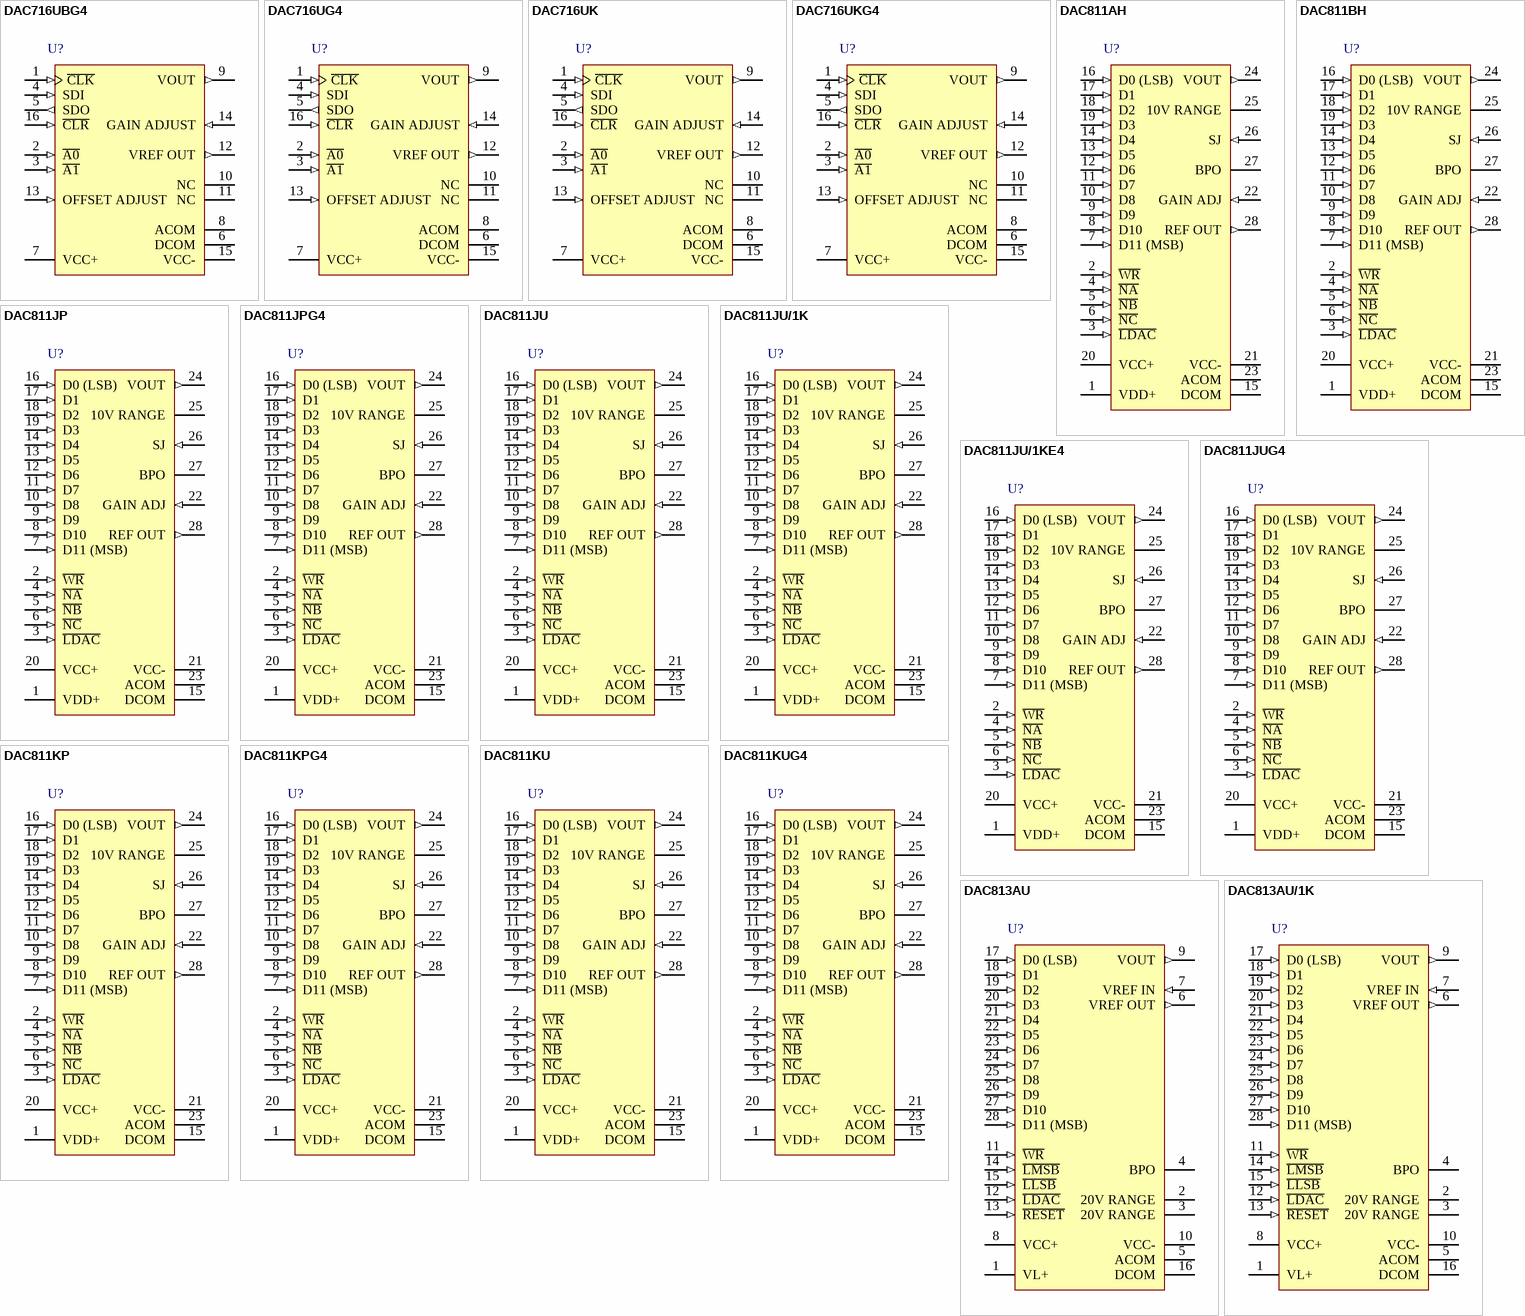
[diagram p5: symbols DAC716UBG4 to DAC813AU/1K]

## DAC716UBG4
designator U?
16-Bit DAC with Serial Data Interface, -40 to 85 degC, 16-pin SOIC (DW16), Green (RoHS & no Sb/Br); Manufacturer: Texas Instruments; PartNumber: DAC716UBG4; DAC Channels: 1; DNL(Max)(+/-LSB): 2; Interface: Serial SPI; Resolution(Bits): 16; Settling Time(us): 10; SubFamily: Precision DAC (=<10MSPS); DatasheetVersion: SBAS049; PackageVersion: 4040000-2/G, 01/2011; PackageReference: DW16; PackageDescription: 16-Pin Plastic Small Outline, Body 10.30 x 7.50 mm, Pitch 1.27 mm; Supplier 1: Digi-Key; Supplier Part Number 1: DAC716UBG4-ND; Supplier 2: Mouser; Supplier Part Number 2: 595-DAC716UBG4; Eco-Plan: Green (RoHS & no Sb/Br); INL(Max)(+/-LSB): 2; Mounting Technology: Surface Mount; Code_JEDEC: MS-013; ComponentLink1Description: Manufacturer URL; ComponentLink1URL: http://www.ti.com/; ComponentLink2Description: Datasheet; ComponentLink2URL: http://www.ti.com/general/docs/lit/getliterature.tsp?genericPartNumber=DAC716&fileType=pdf; ComponentLink3Description: Package Specification; ComponentLink3URL: http://www.ti.com/litv/pdf/msoi003g
footprint TI-DW16_N (SOIC, 16-Leads, Body 10.3x7.5mm, Pitch 1.27mm, IPC Medium Density)
footprint TI-DW16_L (SOIC, 16-Leads, Body 10.3x7.5mm, Pitch 1.27mm, IPC High Density)
footprint TI-DW16_M (SOIC, 16-Leads, Body 10.3x7.5mm, Pitch 1.27mm, IPC Low Density)
pins: 1 ~{CLK} (in) "Serial Data Clock", 2 ~{A0} (in) "Enable for Input Register (Active Low)", 3 ~{A1} (in) "Enable for D/A Latch (Active Low)", 4 SDI (in) "Serial Data Input", 5 SDO (out) "Serial Data Output", 6 DCOM (power) "Digital Supply Ground", 7 VCC+ (power) "Positive Power Supply", 8 ACOM (power) "Analog Supply Ground", 9 VOUT (out) "D/A Output", 10 NC "No Connection", 11 NC "No Connection", 12 VREF OUT (out) "Voltage Reference Output", 13 OFFSET ADJUST (in) "Offset Adjust", 14 GAIN ADJUST (in) "Gain Adjust", 15 VCC- (power) "Negative Power Supply", 16 ~{CLR} (in) "Clear"